# Altium schematic symbol library VXO7805-500-M-TR.SchLib: 1 symbol
Pins are listed as number, name and electrical type; pins without a type are passive.

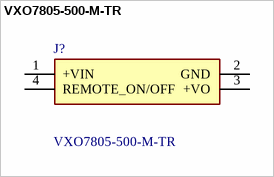
[diagram p0: symbol VXO7805-500-M-TR]

## VXO7805-500-M-TR
designator J?
Module DC-DC 24VIN 1-OUT 5V 0.5A 2.5W 4-Pin SMD Module T/R; Manufacturer_Name: CUI Inc.; Geometry.Height: 3.5mm; Manufacturer_Part_Number: VXO7805-500-M-TR; Mouser Part Number: 490-VXO7805-500-M-TR; Mouser Price/Stock: https://www.mouser.co.uk/ProductDetail/CUI-Inc/VXO7805-500-M-TR?qs=GBLSl2AkirsIOUn2Flq1hQ%3D%3D; Arrow Part Number: VXO7805-500-M-TR; Arrow Price/Stock: https://www.arrow.com/en/products/vxo7805-500-m-tr/cui-inc?region=nac; Datasheet Link: https://datasheet.datasheetarchive.com/originals/distributors/Datasheets_SAMA/ebe71804fae27f1150299b4ebc025588.pdf
footprint VXO7805500MTR
pins: 1 +VIN, 2 GND, 3 +VO, 4 REMOTE_ON/OFF